# Altium schematic symbol library 768290002.SchLib: 1 symbol
Pins are listed as number, name and electrical type; pins without a type are passive.

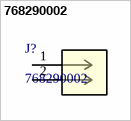
[diagram p0: symbol 768290002]

## 768290002
designator J?
Mega-Fit Vertical Header, Through Hole, 5.70mm Pitch, Dual Row, 2 Circuits, 1.52Âµm Matte Tin (Sn) Plating, Glow-Wire Capable, Black; Manufacturer_Name: Molex Connector Corporation; Copyright: Copyright (C) 2025 Ultra Librarian. All rights reserved.; Manufacturer_Part_Number: 768290002; RefDes: RefDes; Type: Type
footprint CONN_SD-76829-0100_02_MOL
pins: 1, 2